# Altium schematic symbol library MTSW-105-X-X-D-X.SchLib: 1 symbol
Pins are listed as number, name and electrical type; pins without a type are passive.

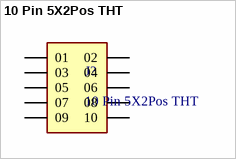
[diagram p0: symbol 10 Pin 5X2Pos THT]

## 10 Pin 5X2Pos THT
designator J?
10 Pin 5X2Pos THT BergeStick 2.54MM MTSW-105-X-X-D-X; MF: {'manufacturer': u'Samtec Inc.'}; Package: None; Price: None; Value: *; MP: MTSW-105-X-X-D-X; Availability: Unavailable
footprint SAMTEC_MTSW-105-X-X-D-X
pins: 01, 02, 03, 04, 05, 06, 07, 08, 09, 10